# Altium schematic symbol library HCPL-316J.SchLib: 1 symbol
Pins are listed as number, name and electrical type; pins without a type are passive.

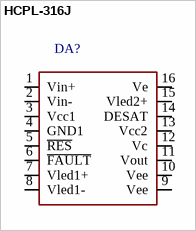
[diagram p0: symbol HCPL-316J]

## HCPL-316J
designator DA?
=type; type: HCPL-316J
footprint SO_16_W
pins: 1 Vin+, 2 Vin-, 3 Vcc1, 4 GND1, 5 ~{RES}, 6 ~{FAULT}, 7 Vled1+, 8 Vled1-, 9 Vee, 10 Vee, 11 Vout, 12 Vс, 13 Vcc2, 14 DESAT, 15 Vled2+, 16 Ve